# EAGLE library part HEADER-8X1 (library Controller)
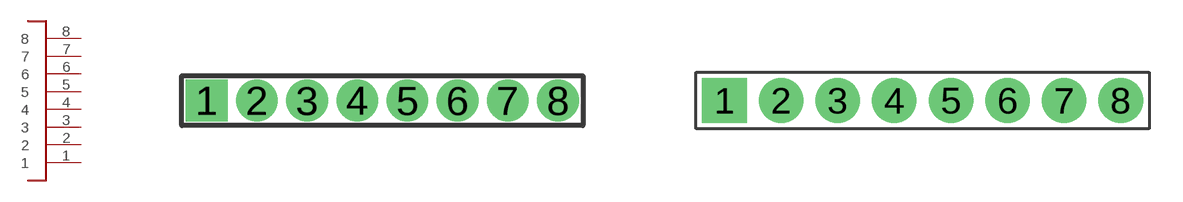
[diagram p19: symbol with the pads of HEADER-8X1-1.27; footprints HEADER-8X1-1.27, HEADER-8X1-2.54]

Designator prefix -

## HEADER-8X1-1.27  [HEADER-8X1-1.27]
1  1
2  2
3  3
4  4
5  5
6  6
7  7
8  8

## HEADER-8X1-2.54  [HEADER-8X1-2.54]
Pads as for HEADER-8X1-1.27

## Footprint HEADER-8X1-1.27 (pad centres in mm)
5 pin 0.1" header
drill 0.55 square: 1 -4.445,0
drill 0.55: 2 -3.175,0; 3 -1.905,0; 4 -0.635,0; 5 0.635,0; 6 1.905,0; 7 3.175,0; 8 4.445,0

## Footprint HEADER-8X1-2.54 (pad centres in mm)
5 pin 0.1" header
drill 1.05 pad 2 square: 1 -8.89,0
drill 1.05 pad 2: 2 -6.35,0; 3 -3.81,0; 4 -1.27,0; 5 1.27,0; 6 3.81,0; 7 6.35,0; 8 8.89,0